# Altium schematic symbol library SCH - MCU - ATTINY - MICROCHIP ATTINY9-MAHR UDFN8.SchLib: 1 symbol
Pins are listed as number, name and electrical type; pins without a type are passive.

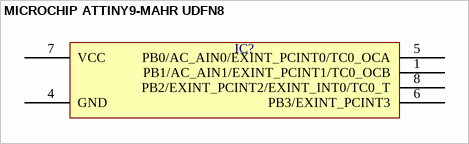
[diagram p0: symbol MICROCHIP ATTINY9-MAHR UDFN8]

## MICROCHIP ATTINY9-MAHR UDFN8
designator IC?  (value not drawn)
pins: 1 PB1/AC_AIN1/EXINT_PCINT1/TC0_OCB, 4 GND, 5 PB0/AC_AIN0/EXINT_PCINT0/TC0_OCA, 6 PB3/EXINT_PCINT3, 7 VCC, 8 PB2/EXINT_PCINT2/EXINT_INT0/TC0_T